# Altium schematic symbol library Connector-ScrewTerminal.SchLib: 1 symbol
Pins are listed as number, name and electrical type; pins without a type are passive.

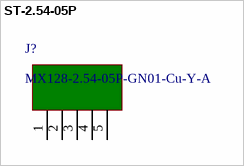
[diagram p0: symbol ST-2.54-05P]

## ST-2.54-05P
designator J?, comment MX128-2.54-05P-GN01-Cu-Y-A
螺钉式接线端子; Manufacturer_Name: MAX(迈旭); Manufacturer_Part_Number: MX128-2.54-05P-GN01-Cu-Y-A; LCSC: C5188445; Manufacturer_Name_1: *; Manufacturer_Part_Number_1: *
footprint ST-2.54-05P (螺钉式接线端子 2.54 1X5 绿色 直插)
pins: 1, 2, 3, 4, 5